# EAGLE library part AN5273 (library Audio-Power-amlifier V.2.0)
The AN5273 is a monolithic integrated circuit designed for 4.0 W (18 V, 8 W) output audio power amplifier. It is a dual channel SEPP IC suitable for stereo operation in TV application.
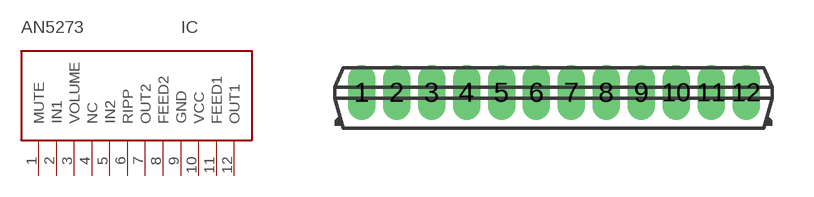
[diagram p134: symbol with the pads of HSIP012-P-0000A-1,27; footprint HSIP012-P-0000A-1,27]

Designator prefix IC

## AN5273  [HSIP012-P-0000A-1,27]
1  MUTE  in
2  IN1  in
3  VOLUME  in
4  NC  nc
5  IN2  in
6  RIPP
7  OUT2  out
8  FEED2
9  GND  pwr
10  VCC  pwr
11  FEED1
12  OUT1  out

## Footprint HSIP012-P-0000A-1,27 (pad centres in mm)
drill 0.5 long: 1 -7.62,0; 2 -6.35,0; 3 -5.08,0; 4 -3.81,0; 5 -2.54,0; 6 -1.27,0; 7 0,0; 8 1.27,0; 9 2.54,0; 10 3.81,0; 11 5.08,0; 12 6.35,0